# Altium schematic symbol library PEC12R-2220F-S0024.SchLib: 1 symbol
Pins are listed as number, name and electrical type; pins without a type are passive.

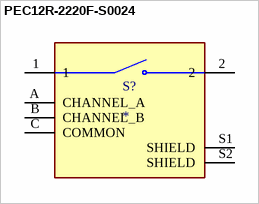
[diagram p0: symbol PEC12R-2220F-S0024]

## PEC12R-2220F-S0024
designator S?
Rotary Encoder Mechanical 24 Quadrature (Incremental) Right Angle; MP: PEC12R-2220F-S0024; MF: Bourns; SnapEDA_Link: https://www.snapeda.com/parts/PEC12R-2220F-S0024/Bourns/view-part/?ref=snap; Check_prices: https://www.snapeda.com/parts/PEC12R-2220F-S0024/Bourns/view-part/?ref=eda; Value: *; Purchase-URL: https://pricing.snapeda.com/search/part/PEC12R-2220F-S0024/?ref=eda; Package: None
footprint XDCR_PEC12R-2220F-S0024
pins: 1, 2, A CHANNEL_A, B CHANNEL_B, C COMMON, S1 SHIELD, S2 SHIELD